# Altium integrated library transistor-power.IntLib: 101 symbols
Pins are listed as number, name and electrical type; pins without a type are passive.

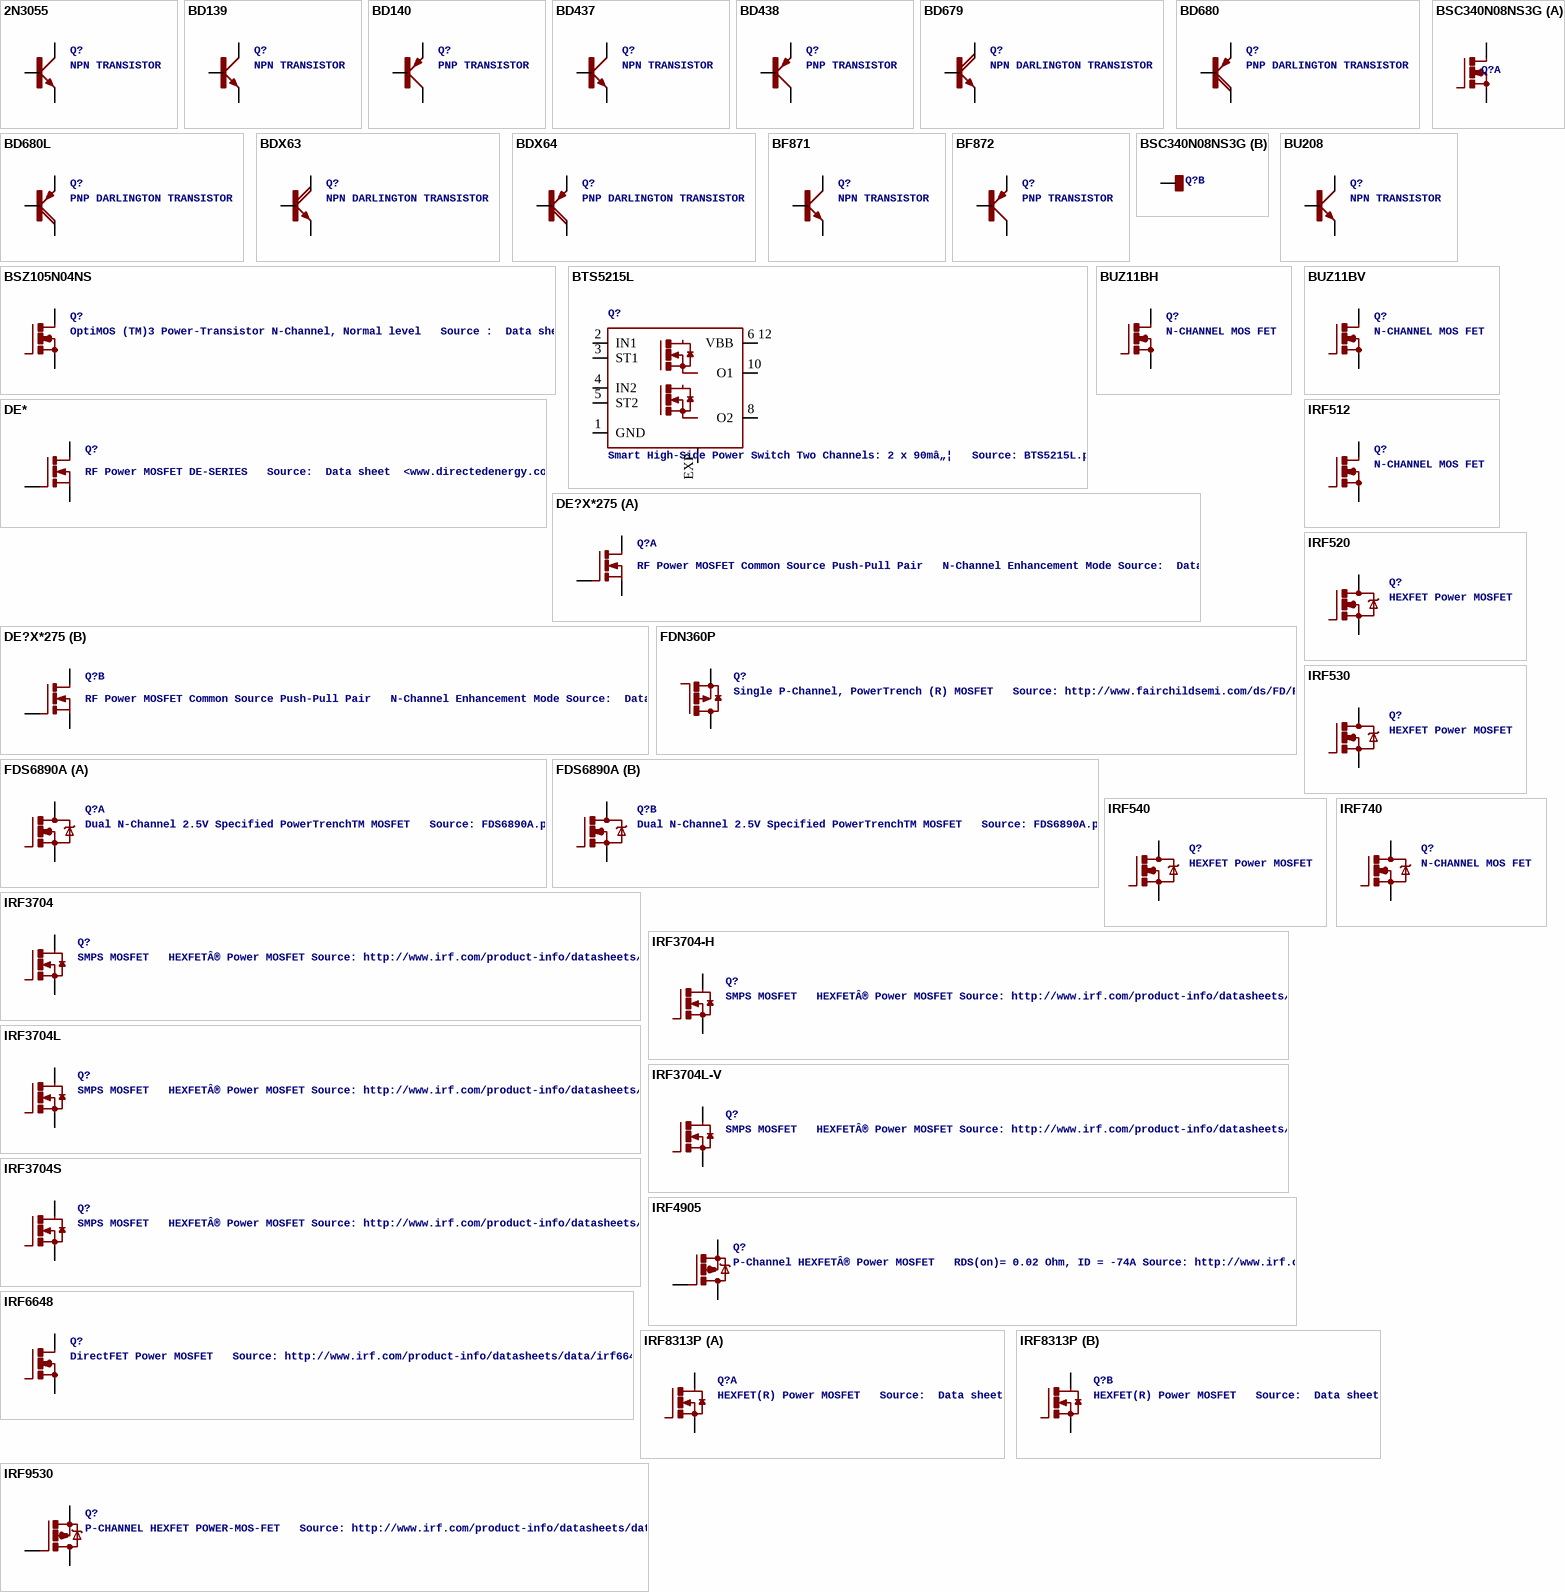
[diagram p0: symbols 2N3055 to IRF9530]

## 2N3055
designator Q?, comment NPN TRANSISTOR
footprint TO3A
pins: B, C C1 C, E

## BD139
designator Q?, comment NPN TRANSISTOR
footprint TO126AV
pins: B, C, E

## BD140
designator Q?, comment PNP TRANSISTOR
footprint TO126AV
pins: B, C, E

## BD437
designator Q?, comment NPN TRANSISTOR
footprint TO126AV
pins: B, C, E

## BD438
designator Q?, comment PNP TRANSISTOR
footprint TO126AV
pins: B, C, E

## BD679
designator Q?, comment NPN DARLINGTON TRANSISTOR
footprint TO126AV
pins: B, C, E

## BD680
designator Q?, comment PNP DARLINGTON TRANSISTOR
footprint TO126AV
pins: B, C, E

## BD680L
designator Q?, comment PNP DARLINGTON TRANSISTOR
footprint TO126AH
pins: B, C, E

## BDX63
designator Q?, comment NPN DARLINGTON TRANSISTOR
footprint TO3A
pins: B, C C1 C, E

## BDX64
designator Q?, comment PNP DARLINGTON TRANSISTOR
footprint TO3A
pins: B, C C1 C, E

## BF871
designator Q?, comment NPN TRANSISTOR
footprint TO202AH
pins: 1 B, 2 C, 3 E

## BF872
designator Q?, comment PNP TRANSISTOR
footprint TO202AH
pins: 1 E, 2 C, 3 B

## BSC340N08NS3G
designator Q?, comment OptiMOS TM 3 Power-Transistor   BSC340N08NS3 G Source:  Data sheet  (value not drawn)
footprint PG-TDSON-8
part A pins: 1 2 3 S, 4 G, 5 6 7 8 D
part B pins: TH

## BSZ105N04NS
designator Q?, comment OptiMOS (TM)3 Power-Transistor N-Channel, Normal level   Source :  Data sheet
footprint PG-TDSON-8
pins: 1 2 3 S, 4 G, 5 6 7 8 TH D

## BTS5215L
designator Q?, comment Smart High-Side Power Switch Two Channels: 2 x 90mâ„¦   Source: BTS5215L.pdf
footprint PG-DSO-12-9
pins: 1 GND (power), 2 IN1, 3 ST1, 4 IN2, 5 ST2, 6 12 VBB (power), 8 O2, 10 O1, EXP

## BU208
designator Q?, comment NPN TRANSISTOR
footprint TO3A
pins: B, C C1 C, E

## BUZ11BH
designator Q?, comment N-CHANNEL MOS FET
footprint TO220BH
pins: D, G, S

## BUZ11BV
designator Q?, comment N-CHANNEL MOS FET
footprint TO220BV
pins: D, G, S

## DE*
designator Q?, comment RF Power MOSFET DE-SERIES   Source:  Data sheet  <www.directedenergy.com>
footprint DE275
pins: D, G, SD1 SD2 SG1 SG2 SG1

## DE?X*275
designator Q?, comment RF Power MOSFET Common Source Push-Pull Pair   N-Channel Enhancement Mode Source:  Data sheet
footprint DE_X
part A pins: D1 D, G1 G, SD1 SG1 SG1
part B pins: D2 D, G2 G, SD2 SG2 SG1

## FDN360P
designator Q?, comment Single P-Channel, PowerTrench (R) MOSFET   Source: http://www.fairchildsemi.com/ds/FD/FDN360P.pdf
footprint SUPER-SOT3
pins: 1 G, 2 S, 3 D

## FDS6890A
designator Q?, comment Dual N-Channel 2.5V Specified PowerTrenchTM MOSFET   Source: FDS6890A.pdf
footprint M08A
part A pins: 1 S, 2 G, 7 8 D
part B pins: 3 S, 4 G, 5 6 D

## IRF512
designator Q?, comment N-CHANNEL MOS FET
footprint TO220BV
pins: D, G, S

## IRF520
designator Q?, comment HEXFET Power MOSFET
footprint TO220BV
pins: D, G, S

## IRF530
designator Q?, comment HEXFET Power MOSFET
footprint TO220BV
pins: D, G, S

## IRF540
designator Q?, comment HEXFET Power MOSFET
footprint TO220BV
pins: D, G, S

## IRF740
designator Q?, comment N-CHANNEL MOS FET
footprint TO220BV
pins: D, G, S

## IRF3704
designator Q?, comment SMPS MOSFET   HEXFETÂ® Power MOSFET Source: http://www.irf.com/product-info/datasheets/data/irf3704.pdf
footprint TO220AH
pins: B G, C D, E S

## IRF3704-H
designator Q?, comment SMPS MOSFET   HEXFETÂ® Power MOSFET Source: http://www.irf.com/product-info/datasheets/data/irf3704.pdf
footprint TO220BH
pins: D, G, S

## IRF3704L
designator Q?, comment SMPS MOSFET   HEXFETÂ® Power MOSFET Source: http://www.irf.com/product-info/datasheets/data/irf3704.pdf
footprint TO262-H
pins: 1 G, 2 D, 3 S

## IRF3704L-V
designator Q?, comment SMPS MOSFET   HEXFETÂ® Power MOSFET Source: http://www.irf.com/product-info/datasheets/data/irf3704.pdf
footprint TO262-V
pins: 1 G, 2 D, 3 S

## IRF3704S
designator Q?, comment SMPS MOSFET   HEXFETÂ® Power MOSFET Source: http://www.irf.com/product-info/datasheets/data/irf3704.pdf
footprint D2PACK
pins: 1 G, 2 D, 3 S

## IRF4905
designator Q?, comment P-Channel HEXFETÂ® Power MOSFET   RDS(on)= 0.02 Ohm, ID = -74A Source: http://www.irf.com/product-info/datasheets/data/irf4905pbf.pdf
footprint TO220BH
pins: D, G, S

## IRF6648
designator Q?, comment DirectFET Power MOSFET   Source: http://www.irf.com/product-info/datasheets/data/irf6648.pdf
footprint DIRECTFET
pins: D@1 D@2 D@3 D@4 D, G, S@1 S@2 S

## IRF8313P
designator Q?, comment HEXFET(R) Power MOSFET   Source:  Data sheet
footprint SO-08
part A pins: 3 S, 4 G, 5 6 D
part B pins: 1 S, 2 G, 7 8 D

## IRF9530
designator Q?, comment P-CHANNEL HEXFET POWER-MOS-FET   Source: http://www.irf.com/product-info/datasheets/data/irf9530.pdf
footprint TO220BV
pins: D, G, S

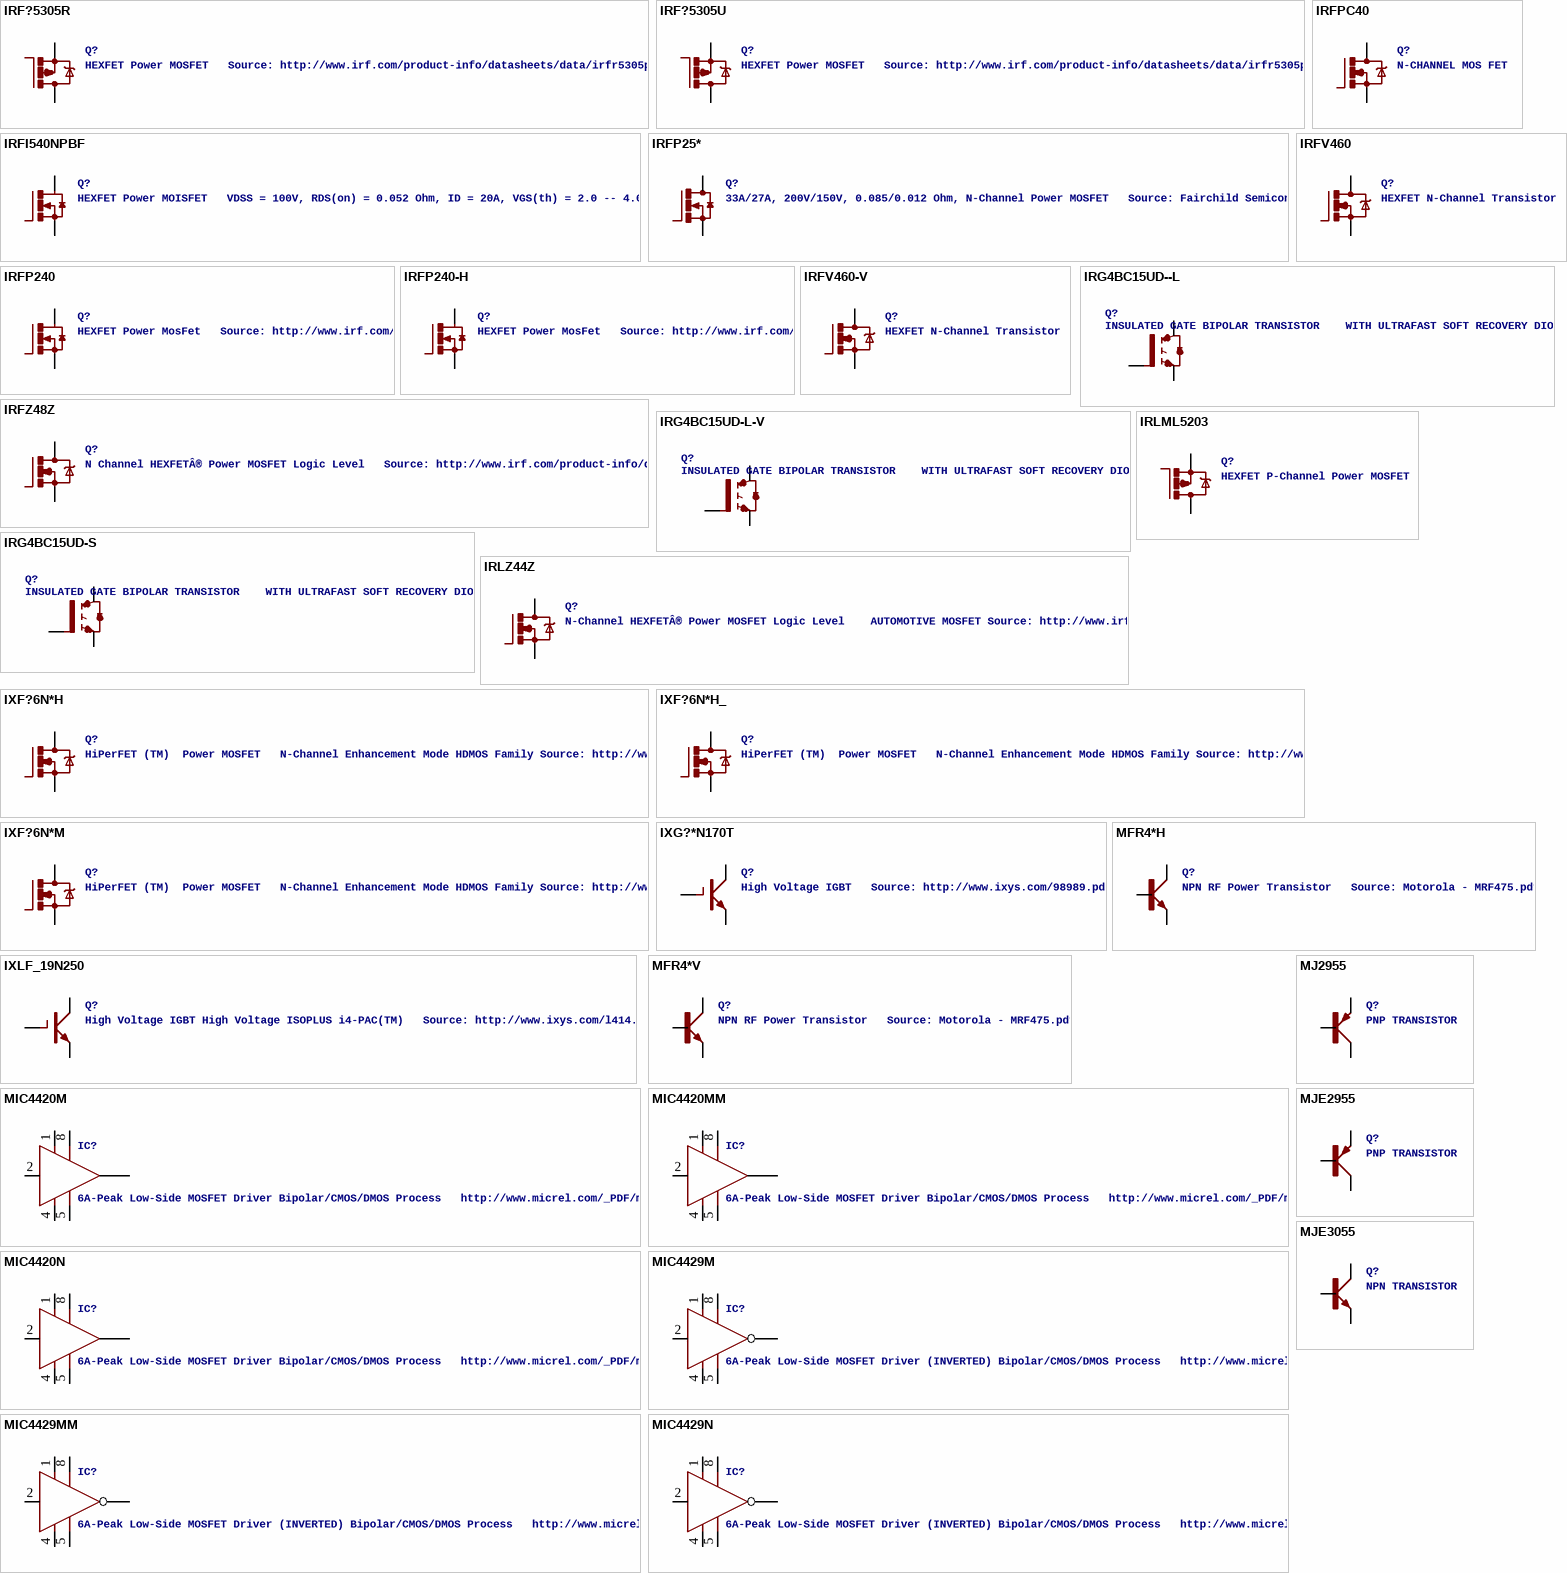
[diagram p1: symbols IRF?5305R to MJE3055]

## IRF?5305R
designator Q?, comment HEXFET Power MOSFET   Source: http://www.irf.com/product-info/datasheets/data/irfr5305pbf.pdf
footprint D-PAK_TO252AA
pins: 1 G, 3 S, 4 D

## IRF?5305U
designator Q?, comment HEXFET Power MOSFET   Source: http://www.irf.com/product-info/datasheets/data/irfr5305pbf.pdf
footprint I-PAK_TO251AA
pins: 1 G, 2 D, 3 S

## IRFI540NPBF
designator Q?, comment HEXFET Power MOISFET   VDSS = 100V, RDS(on) = 0.052 Ohm, ID = 20A, VGS(th) = 2.0 -- 4.0V Source: http://www.irf.com/product-info/datasheets/data/irfi540npbf.pdf
footprint TO220BH
pins: D, G, S

## IRFP25*
designator Q?, comment 33A/27A, 200V/150V, 0.085/0.012 Ohm, N-Channel Power MOSFET   Source: Fairchild Semiconductor Corporation
footprint TO-247AD-V
pins: D, G, S

## IRFP240
designator Q?, comment HEXFET Power MosFet   Source: http://www.irf.com/
footprint TO247BV
pins: D, G, S

## IRFP240-H
designator Q?, comment HEXFET Power MosFet   Source: http://www.irf.com/
footprint TO247BH
pins: D, G, S

## IRFPC40
designator Q?, comment N-CHANNEL MOS FET
footprint TO247BV
pins: D, G, S

## IRFV460
designator Q?, comment HEXFET N-Channel Transistor
footprint TO258AA
pins: 1-D D, 2-S S, 3-G G

## IRFV460-V
designator Q?, comment HEXFET N-Channel Transistor
footprint TO258AA-V
pins: 1-D D, 2-S S, 3-G G

## IRFZ48Z
designator Q?, comment N Channel HEXFETÂ® Power MOSFET Logic Level   Source: http://www.irf.com/product-info/datasheets/data/irfz48z.pdf
footprint TO220BH
pins: D, G, S

## IRG4BC15UD--L
designator Q?, comment INSULATED GATE BIPOLAR TRANSISTOR    WITH ULTRAFAST SOFT RECOVERY DIODE
footprint TO262-V
pins: 1 G, 2 C, 3 E

## IRG4BC15UD-L-V
designator Q?, comment INSULATED GATE BIPOLAR TRANSISTOR    WITH ULTRAFAST SOFT RECOVERY DIODE
footprint TO262-H
pins: 1 G, 2 C, 3 E

## IRG4BC15UD-S
designator Q?, comment INSULATED GATE BIPOLAR TRANSISTOR    WITH ULTRAFAST SOFT RECOVERY DIODE
footprint D2PACK
pins: 1 G, 2 C, 3 E

## IRLML5203
designator Q?, comment HEXFET P-Channel Power MOSFET
footprint MICRO3
pins: 1 G, 2 S, 3 D

## IRLZ44Z
designator Q?, comment N-Channel HEXFETÂ® Power MOSFET Logic Level    AUTOMOTIVE MOSFET Source: http://www.irf.com/product-info/datasheets/data/irlz44zpbf.pdf
footprint TO220BH
pins: D, G, S

## IXF?6N*H
designator Q?, comment HiPerFET (TM)  Power MOSFET   N-Channel Enhancement Mode HDMOS Family Source: http://www.ixys.com/91529.pdf
footprint TO-247AD-V
pins: D, G, S

## IXF?6N*H_
designator Q?, comment HiPerFET (TM)  Power MOSFET   N-Channel Enhancement Mode HDMOS Family Source: http://www.ixys.com/91529.pdf
footprint TO-247AD-H
pins: D, G, S

## IXF?6N*M
designator Q?, comment HiPerFET (TM)  Power MOSFET   N-Channel Enhancement Mode HDMOS Family Source: http://www.ixys.com/91529.pdf
footprint TO204
pins: D, G, S

## IXG?*N170T
designator Q?, comment High Voltage IGBT   Source: http://www.ixys.com/98989.pdf
footprint TO268
pins: C@1 C@2 C, E, G

## IXLF_19N250
designator Q?, comment High Voltage IGBT High Voltage ISOPLUS i4-PAC(TM)   Source: http://www.ixys.com/l414.pdf
footprint ISOPLUS_I4
pins: 1 G, 2 E, 5 C

## MFR4*H
designator Q?, comment NPN RF Power Transistor   Source: Motorola - MRF475.pdf
footprint TO220AH
pins: B, C, E

## MFR4*V
designator Q?, comment NPN RF Power Transistor   Source: Motorola - MRF475.pdf
footprint TO220AV
pins: B, C, E

## MIC4420M
designator IC?, comment 6A-Peak Low-Side MOSFET Driver Bipolar/CMOS/DMOS Process   http://www.micrel.com/_PDF/mic4420.pdf
footprint SO-08
pins: 1 VS (power), 2 IN, 4 GND (power), 5 GND1 (power), 6 OUT@1, 7 OUT@2, 8 VS1 (power)

## MIC4420MM
designator IC?, comment 6A-Peak Low-Side MOSFET Driver Bipolar/CMOS/DMOS Process   http://www.micrel.com/_PDF/mic4420.pdf
footprint MSOP8
pins: 1 VS (power), 2 IN, 4 GND (power), 5 GND1 (power), 6 OUT@1, 7 OUT@2, 8 VS1 (power)

## MIC4420N
designator IC?, comment 6A-Peak Low-Side MOSFET Driver Bipolar/CMOS/DMOS Process   http://www.micrel.com/_PDF/mic4420.pdf
footprint DIL08
pins: 1 VS (power), 2 IN, 4 GND (power), 5 GND1 (power), 6 OUT@1, 7 OUT@2, 8 VS1 (power)

## MIC4429M
designator IC?, comment 6A-Peak Low-Side MOSFET Driver (INVERTED) Bipolar/CMOS/DMOS Process   http://www.micrel.com/_PDF/mic4420.pdf
footprint SO-08
pins: 1 VS (power), 2 IN, 4 GND (power), 5 GND1 (power), 6 OUT@1, 7 OUT@2, 8 VS1 (power)

## MIC4429MM
designator IC?, comment 6A-Peak Low-Side MOSFET Driver (INVERTED) Bipolar/CMOS/DMOS Process   http://www.micrel.com/_PDF/mic4420.pdf
footprint MSOP8
pins: 1 VS (power), 2 IN, 4 GND (power), 5 GND1 (power), 6 OUT@1, 7 OUT@2, 8 VS1 (power)

## MIC4429N
designator IC?, comment 6A-Peak Low-Side MOSFET Driver (INVERTED) Bipolar/CMOS/DMOS Process   http://www.micrel.com/_PDF/mic4420.pdf
footprint DIL08
pins: 1 VS (power), 2 IN, 4 GND (power), 5 GND1 (power), 6 OUT@1, 7 OUT@2, 8 VS1 (power)

## MJ2955
designator Q?, comment PNP TRANSISTOR
footprint TO3A
pins: B, C C1 C, E

## MJE2955
designator Q?, comment PNP TRANSISTOR
footprint TO220AV
pins: B, C, E

## MJE3055
designator Q?, comment NPN TRANSISTOR
footprint TO220AV
pins: B, C, E

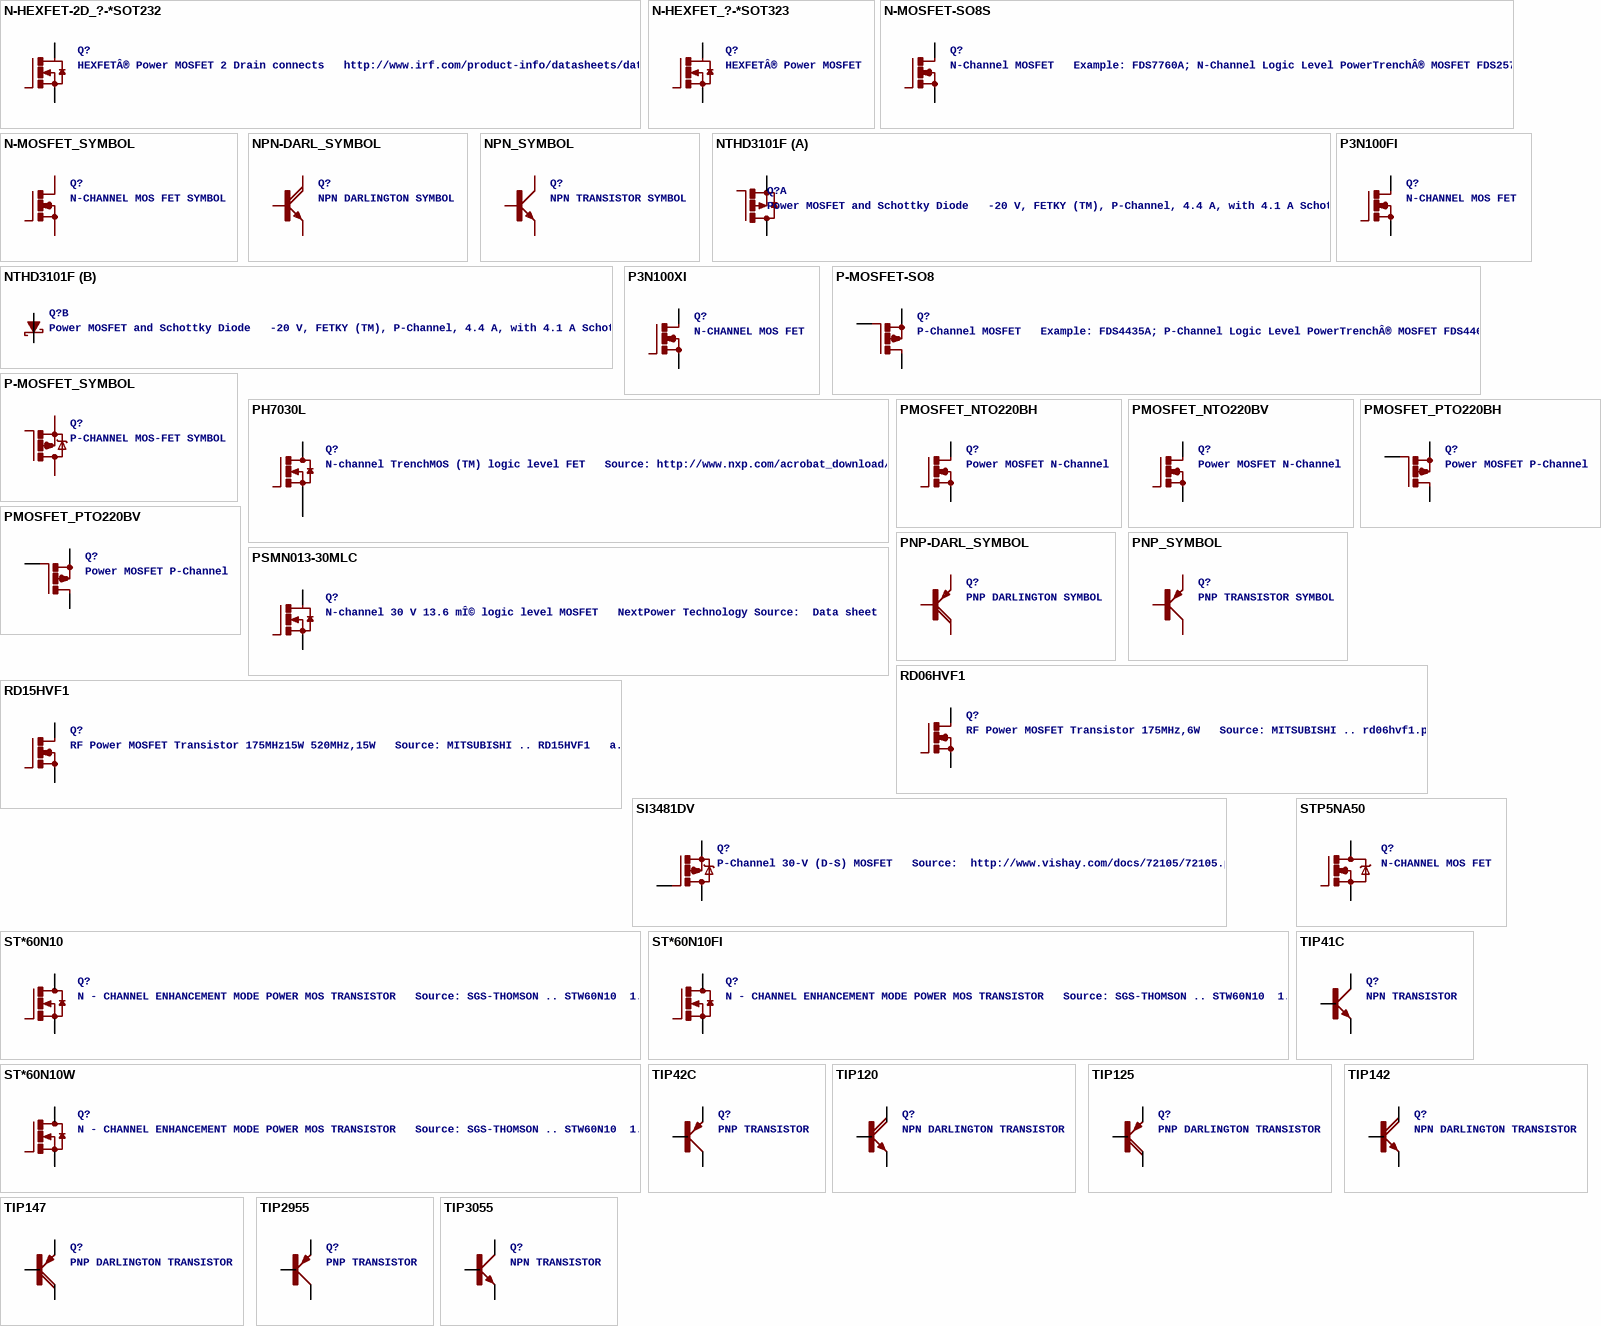
[diagram p2: symbols N-HEXFET-2D_?-*SOT232 to TIP3055]

## N-HEXFET-2D_?-*SOT232
designator Q?, comment HEXFETÂ® Power MOSFET 2 Drain connects   http://www.irf.com/product-info/datasheets/data/irll014n.pdf
footprint SOT223
pins: 1 G, 2 4 D, 3 S

## N-HEXFET_?-*SOT323
designator Q?, comment HEXFETÂ® Power MOSFET
footprint SOT223
pins: 1 G, 3 S, 4 D

## N-MOSFET-SO8S
designator Q?, comment N-Channel MOSFET   Example: FDS7760A; N-Channel Logic Level PowerTrenchÂ® MOSFET FDS2572; N-Channel UltraFETÂ® Trench MOSFET Source: www.fairchildsemi.com
footprint SO-08
pins: 1 2 3 S, 4 G, 5 6 7 8 D

## N-MOSFET_SYMBOL
designator Q?, comment N-CHANNEL MOS FET SYMBOL

## NPN-DARL_SYMBOL
designator Q?, comment NPN DARLINGTON SYMBOL

## NPN_SYMBOL
designator Q?, comment NPN TRANSISTOR SYMBOL

## NTHD3101F
designator Q?, comment Power MOSFET and Schottky Diode   -20 V, FETKY (TM), P-Channel, 4.4 A, with 4.1 A Schottky Barrier Diode, ChipFET (TM) Source: http://www.onsemi.com/pub/Collateral/NTHD3101F-D.PDF
footprint CHIPFET-1206A
part A pins: 3 S, 4 G, 5 6 D
part B pins: 1 2 A, 7 8 C

## P3N100FI
designator Q?, comment N-CHANNEL MOS FET
footprint IW220B
pins: D, G, S

## P3N100XI
designator Q?, comment N-CHANNEL MOS FET
footprint IW221
pins: D, G, S

## P-MOSFET-SO8
designator Q?, comment P-Channel MOSFET   Example: FDS4435A; P-Channel Logic Level PowerTrenchÂ® MOSFET FDS4465; P-Channel 1.8V Specified PowerTrenchÂ® MOSFET Source: www.fairchildsemi.com
footprint SO-08
pins: 1 2 3 S, 4 G, 5 6 7 8 D

## P-MOSFET_SYMBOL
designator Q?, comment P-CHANNEL MOS-FET SYMBOL

## PH7030L
designator Q?, comment N-channel TrenchMOS (TM) logic level FET   Source: http://www.nxp.com/acrobat_download/datasheets/PH7030L_4.pdf
footprint SOT669
pins: 1 S, 2 S@1, 3 S@2, 4 G, MB D

## PMOSFET_NTO220BH
designator Q?, comment Power MOSFET N-Channel
footprint TO220BH
pins: D, G, S

## PMOSFET_NTO220BV
designator Q?, comment Power MOSFET N-Channel
footprint TO220BV
pins: D, G, S

## PMOSFET_PTO220BH
designator Q?, comment Power MOSFET P-Channel
footprint TO220BH
pins: D, G, S

## PMOSFET_PTO220BV
designator Q?, comment Power MOSFET P-Channel
footprint TO220BV
pins: D, G, S

## PNP-DARL_SYMBOL
designator Q?, comment PNP DARLINGTON SYMBOL

## PNP_SYMBOL
designator Q?, comment PNP TRANSISTOR SYMBOL

## PSMN013-30MLC
designator Q?, comment N-channel 30 V 13.6 mÎ© logic level MOSFET   NextPower Technology Source:  Data sheet  PSMN013-30MLC Â© NXP B.V. 2012. All rights reserved.
MPN: PSMN013-30MLC; OC_FARNELL: 2115260; OC_NEWARK: 05W5709
footprint LFPAK33
pins: 1 2 3 S, 4 G, MB D

## RD06HVF1
designator Q?, comment RF Power MOSFET Transistor 175MHz,6W   Source: MITSUBISHI .. rd06hvf1.pdf
footprint RD06HVF1
pins: 1 G, 2 S, 3 D

## RD15HVF1
designator Q?, comment RF Power MOSFET Transistor 175MHz15W 520MHz,15W   Source: MITSUBISHI .. RD15HVF1   a.pdf
footprint RD06HVF1
pins: 1 G, 2 S, 3 D

## SI3481DV
designator Q?, comment P-Channel 30-V (D-S) MOSFET   Source:  http://www.vishay.com/docs/72105/72105.pdf
footprint TSOP-6.PAC
pins: 1 2 5 6 D, 3 G, 4 S

## ST*60N10
designator Q?, comment N - CHANNEL ENHANCEMENT MODE POWER MOS TRANSISTOR   Source: SGS-THOMSON .. STW60N10  1.pdf
footprint TO218BV
pins: D, G, S

## ST*60N10FI
designator Q?, comment N - CHANNEL ENHANCEMENT MODE POWER MOS TRANSISTOR   Source: SGS-THOMSON .. STW60N10  1.pdf
footprint ISOWATT218
pins: D, G, S

## ST*60N10W
designator Q?, comment N - CHANNEL ENHANCEMENT MODE POWER MOS TRANSISTOR   Source: SGS-THOMSON .. STW60N10  1.pdf
footprint TO-247AD-V
pins: D, G, S

## STP5NA50
designator Q?, comment N-CHANNEL MOS FET
footprint TO220BV
pins: D, G, S

## TIP41C
designator Q?, comment NPN TRANSISTOR
footprint TO220AV
pins: B, C, E

## TIP42C
designator Q?, comment PNP TRANSISTOR
footprint TO220AV
pins: B, C, E

## TIP120
designator Q?, comment NPN DARLINGTON TRANSISTOR
footprint TO220AH
pins: B, C, E

## TIP125
designator Q?, comment PNP DARLINGTON TRANSISTOR
footprint TO220AH
pins: B, C, E

## TIP142
designator Q?, comment NPN DARLINGTON TRANSISTOR
footprint SOT93
pins: B, C, E

## TIP147
designator Q?, comment PNP DARLINGTON TRANSISTOR
footprint SOT93
pins: B, C, E

## TIP2955
designator Q?, comment PNP TRANSISTOR
footprint TOP3AV
pins: B, C, E

## TIP3055
designator Q?, comment NPN TRANSISTOR
footprint TOP3AV
pins: B, C, E